# Altium footprint library CGA6L2X7R1H105K160AA.PcbLib: 1 footprints
Each footprint in its own frame and in the unit in brackets; x right, y up, seen from the top. Pads: shape width x height; smd on the part's side, far side on the other; paste and mask are expansions set on the pad; w line width, h text height; cw(c..) or ccw(c..) is an arc to the next point about the centre after c.
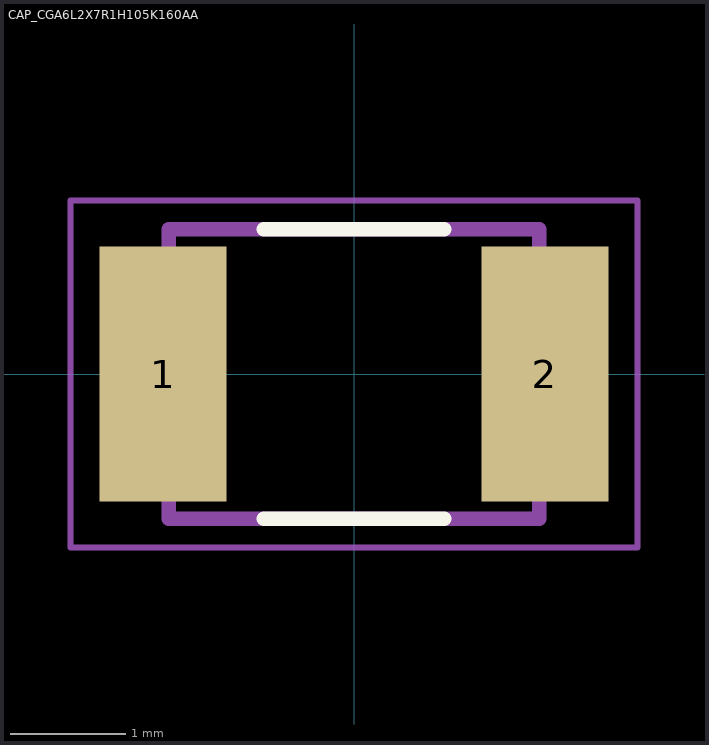
[diagram p0: the footprint, top view; thin cyan lines are the x and y axes]

## CAP_CGA6L2X7R1H105K160AA [mm]
pads (2):
  rect 1.1x2.2 smd: 1(-1.65,0) 2(1.65,0)
Top Overlay:
  lines w0.127: -0.78,-1.25 0.78,-1.25 ; -0.78,1.25 0.78,1.25
Mechanical 13:
  lines w0.127: -1.6,-1.25 1.6,-1.25 1.6,1.25 -1.6,1.25 -1.6,-1.25
Mechanical 15:
  lines w0.05: -2.45,-1.5 2.45,-1.5 2.45,1.5 -2.45,1.5 -2.45,-1.5
3D body "step_temp.STEP": height 1.8, standoff 0, extent -1.6,-1.25 1.6,1.25